# Altium schematic symbol library WE-HCFAT.SchLib: 14 symbols
Pins are listed as number, name and electrical type; pins without a type are passive.

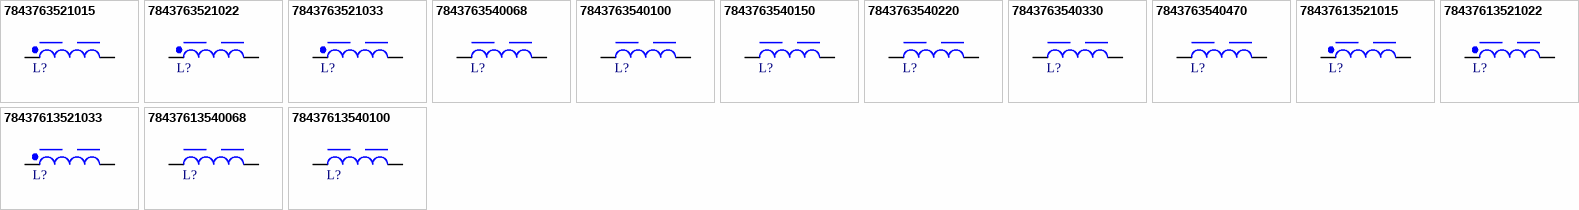
[diagram p0: symbols 7843763521015 to 78437613540100]

## 7843763521015
designator L?, comment 1.5uH, 75A  (value not drawn)
WE-HCFAT Low Loss THT High Current Inductor, size 3521, 1.5uH, 75A, 0.35mOhm; Manufacturer Part Number: 7843763521015; Manufacturer: Wurth Elektronik; Case/Size Code: 3521; Saturation Current: 170A; Category: Power Inductors; Match Code: WE-HCFAT; ComponentLink1Description: Website Link; ComponentLink1URL: https://www.we-online.com/redexpert/article/7843763521015?ad; ComponentLink2Description: Datasheet Link; ComponentLink2URL: https://www.we-online.com/redexpert/spec/7843763521015?ad; Mount: Through Hole; Operating Temperature Max: 150°C; Operating Temperature Min: -40°C; Packaging: Tray; Length: 36mm; Width: 40mm; Height: 24mm; DC Resistance: 0.35mOhm; Inductance: 1.5uH; Rated Current: 75A
footprint WE-HCFAT_3521
simulation model 3521_7843763521015_1.5u
pins: 1, 2

## 7843763521022
designator L?, comment 2.2uH, 75A  (value not drawn)
WE-HCFAT Low Loss THT High Current Inductor, size 3521, 2.2uH, 75A, 0.35mOhm; Manufacturer Part Number: 7843763521022; Manufacturer: Wurth Elektronik; Case/Size Code: 3521; Saturation Current: 130A; Category: Power Inductors; Match Code: WE-HCFAT; ComponentLink1Description: Website Link; ComponentLink1URL: https://www.we-online.com/redexpert/article/7843763521022?ad; ComponentLink2Description: Datasheet Link; ComponentLink2URL: https://www.we-online.com/redexpert/spec/7843763521022?ad; Mount: Through Hole; Operating Temperature Max: 150°C; Operating Temperature Min: -40°C; Packaging: Tray; Length: 36mm; Width: 40mm; Height: 24mm; DC Resistance: 0.35mOhm; Inductance: 2.2uH; Rated Current: 75A
footprint WE-HCFAT_3521
simulation model 3521_7843763521022_2.2u
pins: 1, 2

## 7843763521033
designator L?, comment 3.3uH, 75A  (value not drawn)
WE-HCFAT Low Loss THT High Current Inductor, size 3521, 3.3uH, 75A, 0.35mOhm; Manufacturer Part Number: 7843763521033; Manufacturer: Wurth Elektronik; Case/Size Code: 3521; Saturation Current: 82A; Category: Power Inductors; Match Code: WE-HCFAT; ComponentLink1Description: Website Link; ComponentLink1URL: https://www.we-online.com/redexpert/article/7843763521033?ad; ComponentLink2Description: Datasheet Link; ComponentLink2URL: https://www.we-online.com/redexpert/spec/7843763521033?ad; Mount: Through Hole; Operating Temperature Max: 150°C; Operating Temperature Min: -40°C; Packaging: Tray; Length: 36mm; Width: 40mm; Height: 24mm; DC Resistance: 0.35mOhm; Inductance: 3.3uH; Rated Current: 75A
footprint WE-HCFAT_3521
simulation model 3521_7843763521033_3.3u
pins: 1, 2

## 7843763540068
designator L?, comment 6.8uH, 56.7A  (value not drawn)
WE-HCFAT Low Loss THT High Current Inductor, size 3540, 6.8uH, 56.7A, 1.01mOhm; Manufacturer Part Number: 7843763540068; Manufacturer: Wurth Elektronik; Case/Size Code: 3540; Saturation Current: 76.5A; Category: Power Inductors; Match Code: WE-HCFAT; ComponentLink1Description: Website Link; ComponentLink1URL: https://www.we-online.com/redexpert/article/7843763540068?ad; ComponentLink2Description: Datasheet Link; ComponentLink2URL: https://www.we-online.com/redexpert/spec/7843763540068?ad; Mount: Through Hole; Operating Temperature Max: 150°C; Operating Temperature Min: -40°C; Packaging: Tray; Length: 36mm; Width: 41mm; Height: 35mm; DC Resistance: 1.01mOhm; Inductance: 6.8uH; Rated Current: 56.7A
footprint WE-HCFAT_3540_wire 2.0
simulation model 3540_7843763540068_6.8u
pins: 1, 2

## 7843763540100
designator L?, comment 10uH, 56.7A  (value not drawn)
WE-HCFAT Low Loss THT High Current Inductor, size 3540, 10uH, 56.7A, 1.01mOhm; Manufacturer Part Number: 7843763540100; Manufacturer: Wurth Elektronik; Case/Size Code: 3540; Saturation Current: 62A; Category: Power Inductors; Match Code: WE-HCFAT; ComponentLink1Description: Website Link; ComponentLink1URL: https://www.we-online.com/redexpert/article/7843763540100?ad; ComponentLink2Description: Datasheet Link; ComponentLink2URL: https://www.we-online.com/redexpert/spec/7843763540100?ad; Mount: Through Hole; Operating Temperature Max: 150°C; Operating Temperature Min: -40°C; Packaging: Tray; Length: 36mm; Width: 41mm; Height: 35mm; DC Resistance: 1.01mOhm; Inductance: 10uH; Rated Current: 56.7A
footprint WE-HCFAT_3540_wire 2.0
simulation model 3540_7843763540100_10u
pins: 1, 2

## 7843763540150
designator L?, comment 15uH, 45.3A  (value not drawn)
WE-HCFAT Low Loss THT High Current Inductor, size 3540, 15uH, 45.3A, 1.77mOhm; Manufacturer Part Number: 7843763540150; Manufacturer: Wurth Elektronik; Case/Size Code: 3540; Saturation Current: 51.6A; Category: Power Inductors; Match Code: WE-HCFAT; ComponentLink1Description: Website Link; ComponentLink1URL: https://www.we-online.com/redexpert/article/7843763540150?ad; ComponentLink2Description: Datasheet Link; ComponentLink2URL: https://www.we-online.com/redexpert/spec/7843763540150?ad; Mount: Through Hole; Operating Temperature Max: 150°C; Operating Temperature Min: -40°C; Packaging: Tray; Length: 36mm; Width: 41mm; Height: 35mm; DC Resistance: 1.77mOhm; Inductance: 15uH; Rated Current: 45.3A
footprint WE-HCFAT_3540_wire 1.5
simulation model 3540_7843763540150_15u
pins: 1, 2

## 7843763540220
designator L?, comment 22uH, 40.6A  (value not drawn)
WE-HCFAT Low Loss THT High Current Inductor, size 3540, 22uH, 40.6A, 2.63mOhm; Manufacturer Part Number: 7843763540220; Manufacturer: Wurth Elektronik; Case/Size Code: 3540; Saturation Current: 42A; Category: Power Inductors; Match Code: WE-HCFAT; ComponentLink1Description: Website Link; ComponentLink1URL: https://www.we-online.com/redexpert/article/7843763540220?ad; ComponentLink2Description: Datasheet Link; ComponentLink2URL: https://www.we-online.com/redexpert/spec/7843763540220?ad; Mount: Through Hole; Operating Temperature Max: 150°C; Operating Temperature Min: -40°C; Packaging: Tray; Length: 36mm; Width: 41mm; Height: 35mm; DC Resistance: 2.63mOhm; Inductance: 22uH; Rated Current: 40.6A
footprint WE-HCFAT_3540_wire 1.3
simulation model 3540_7843763540220_22u
pins: 1, 2

## 7843763540330
designator L?, comment 33uH, 32A  (value not drawn)
WE-HCFAT Low Loss THT High Current Inductor, size 3540, 33uH, 32A, 5.67mOhm; Manufacturer Part Number: 7843763540330; Manufacturer: Wurth Elektronik; Case/Size Code: 3540; Saturation Current: 38.9A; Category: Power Inductors; Match Code: WE-HCFAT; ComponentLink1Description: Website Link; ComponentLink1URL: https://www.we-online.com/redexpert/article/7843763540330?ad; ComponentLink2Description: Datasheet Link; ComponentLink2URL: https://www.we-online.com/redexpert/spec/7843763540330?ad; Mount: Through Hole; Operating Temperature Max: 150°C; Operating Temperature Min: -40°C; Packaging: Tray; Length: 36mm; Width: 41mm; Height: 35mm; DC Resistance: 5.67mOhm; Inductance: 33uH; Rated Current: 32A
footprint WE-HCFAT_3540_wire 0.8
simulation model 3540_7843763540330_33u
pins: 1, 2

## 7843763540470
designator L?, comment 47uH, 32A  (value not drawn)
WE-HCFAT Low Loss THT High Current Inductor, size 3540, 47uH, 32A, 5.67mOhm; Manufacturer Part Number: 7843763540470; Manufacturer: Wurth Elektronik; Case/Size Code: 3540; Saturation Current: 31A; Category: Power Inductors; Match Code: WE-HCFAT; ComponentLink1Description: Website Link; ComponentLink1URL: https://www.we-online.com/redexpert/article/7843763540470?ad; ComponentLink2Description: Datasheet Link; ComponentLink2URL: https://www.we-online.com/redexpert/spec/7843763540470?ad; Mount: Through Hole; Operating Temperature Max: 150°C; Operating Temperature Min: -40°C; Packaging: Tray; Length: 36mm; Width: 41mm; Height: 35mm; DC Resistance: 5.67mOhm; Inductance: 47uH; Rated Current: 32A
footprint WE-HCFAT_3540_wire 0.8
simulation model 3540_7843763540470_47u
pins: 1, 2

## 78437613521015
designator L?, comment 1.5uH, 75A  (value not drawn)
WE-HCFAT Low Loss THT High Current Inductor, size 3521, 1.5uH, 75A, 0.35mOhm; Manufacturer Part Number: 78437613521015; Manufacturer: Wurth Elektronik; Case/Size Code: 3521; Saturation Current: 175A; Category: Power Inductors; Match Code: WE-HCFAT; ComponentLink1Description: Website Link; ComponentLink1URL: https://www.we-online.com/redexpert/article/78437613521015?ad; ComponentLink2Description: Datasheet Link; ComponentLink2URL: https://www.we-online.com/redexpert/spec/78437613521015?ad; Mount: Through Hole; Operating Temperature Max: 150°C; Operating Temperature Min: -40°C; Packaging: Tray; Length: 36mm; Width: 40mm; Height: 24mm; DC Resistance: 0.35mOhm; Inductance: 1.5uH; Rated Current: 75A
footprint WE-HCFAT_3521
simulation model 3521_78437613521015_1.5u
pins: 1, 2

## 78437613521022
designator L?, comment 2.2uH, 75A  (value not drawn)
WE-HCFAT Low Loss THT High Current Inductor, size 3521, 2.2uH, 75A, 0.35mOhm; Manufacturer Part Number: 78437613521022; Manufacturer: Wurth Elektronik; Case/Size Code: 3521; Saturation Current: 120A; Category: Power Inductors; Match Code: WE-HCFAT; ComponentLink1Description: Website Link; ComponentLink1URL: https://www.we-online.com/redexpert/article/78437613521022?ad; ComponentLink2Description: Datasheet Link; ComponentLink2URL: https://www.we-online.com/redexpert/spec/78437613521022?ad; Mount: Through Hole; Operating Temperature Max: 150°C; Operating Temperature Min: -40°C; Packaging: Tray; Length: 36mm; Width: 40mm; Height: 24mm; DC Resistance: 0.35mOhm; Inductance: 2.2uH; Rated Current: 75A
footprint WE-HCFAT_3521
simulation model 3521_78437613521022_2.2u
pins: 1, 2

## 78437613521033
designator L?, comment 3.3uH, 75A  (value not drawn)
WE-HCFAT Low Loss THT High Current Inductor, size 3521, 3.3uH, 75A, 0.35mOhm; Manufacturer Part Number: 78437613521033; Manufacturer: Wurth Elektronik; Case/Size Code: 3521; Saturation Current: 76A; Category: Power Inductors; Match Code: WE-HCFAT; ComponentLink1Description: Website Link; ComponentLink1URL: https://www.we-online.com/redexpert/article/78437613521033?ad; ComponentLink2Description: Datasheet Link; ComponentLink2URL: https://www.we-online.com/redexpert/spec/78437613521033?ad; Mount: Through Hole; Operating Temperature Max: 150°C; Operating Temperature Min: -40°C; Packaging: Tray; Length: 36mm; Width: 40mm; Height: 24mm; DC Resistance: 0.35mOhm; Inductance: 3.3uH; Rated Current: 75A
footprint WE-HCFAT_3521
simulation model 3521_78437613521033_3.3u
pins: 1, 2

## 78437613540068
designator L?, comment 6.8uH, 56.7A  (value not drawn)
WE-HCFAT Low Loss THT High Current Inductor, size 3540, 6.8uH, 56.7A, 1.01mOhm; Manufacturer Part Number: 78437613540068; Manufacturer: Wurth Elektronik; Case/Size Code: 3540; Saturation Current: 82.7A; Category: Power Inductors; Match Code: WE-HCFAT; ComponentLink1Description: Website Link; ComponentLink1URL: https://www.we-online.com/redexpert/article/78437613540068?ad; ComponentLink2Description: Datasheet Link; ComponentLink2URL: https://www.we-online.com/redexpert/spec/78437613540068?ad; Mount: Through Hole; Operating Temperature Max: 150°C; Operating Temperature Min: -40°C; Packaging: Tray; Length: 36mm; Width: 41mm; Height: 35mm; DC Resistance: 1.01mOhm; Inductance: 6.8uH; Rated Current: 56.7A
footprint WE-HCFAT_3540_wire 2.0
simulation model 3540_78437613540068_6.8u
pins: 1, 2

## 78437613540100
designator L?, comment 10uH, 56.7A  (value not drawn)
WE-HCFAT Low Loss THT High Current Inductor, size 3540, 10uH, 56.7A, 1.01mOhm; Manufacturer Part Number: 78437613540100; Manufacturer: Wurth Elektronik; Case/Size Code: 3540; Saturation Current: 70.7A; Category: Power Inductors; Match Code: WE-HCFAT; ComponentLink1Description: Website Link; ComponentLink1URL: https://www.we-online.com/redexpert/article/78437613540100?ad; ComponentLink2Description: Datasheet Link; ComponentLink2URL: https://www.we-online.com/redexpert/spec/78437613540100?ad; Mount: Through Hole; Operating Temperature Max: 150°C; Operating Temperature Min: -40°C; Packaging: Tray; Length: 36mm; Width: 41mm; Height: 35mm; DC Resistance: 1.01mOhm; Inductance: 10uH; Rated Current: 56.7A
footprint WE-HCFAT_3540_wire 2.0
simulation model 3540_78437613540100_10u
pins: 1, 2